# Altium schematic symbol library Schlib1.SchLib: 23 symbols
Pins are listed as number, name and electrical type; pins without a type are passive.

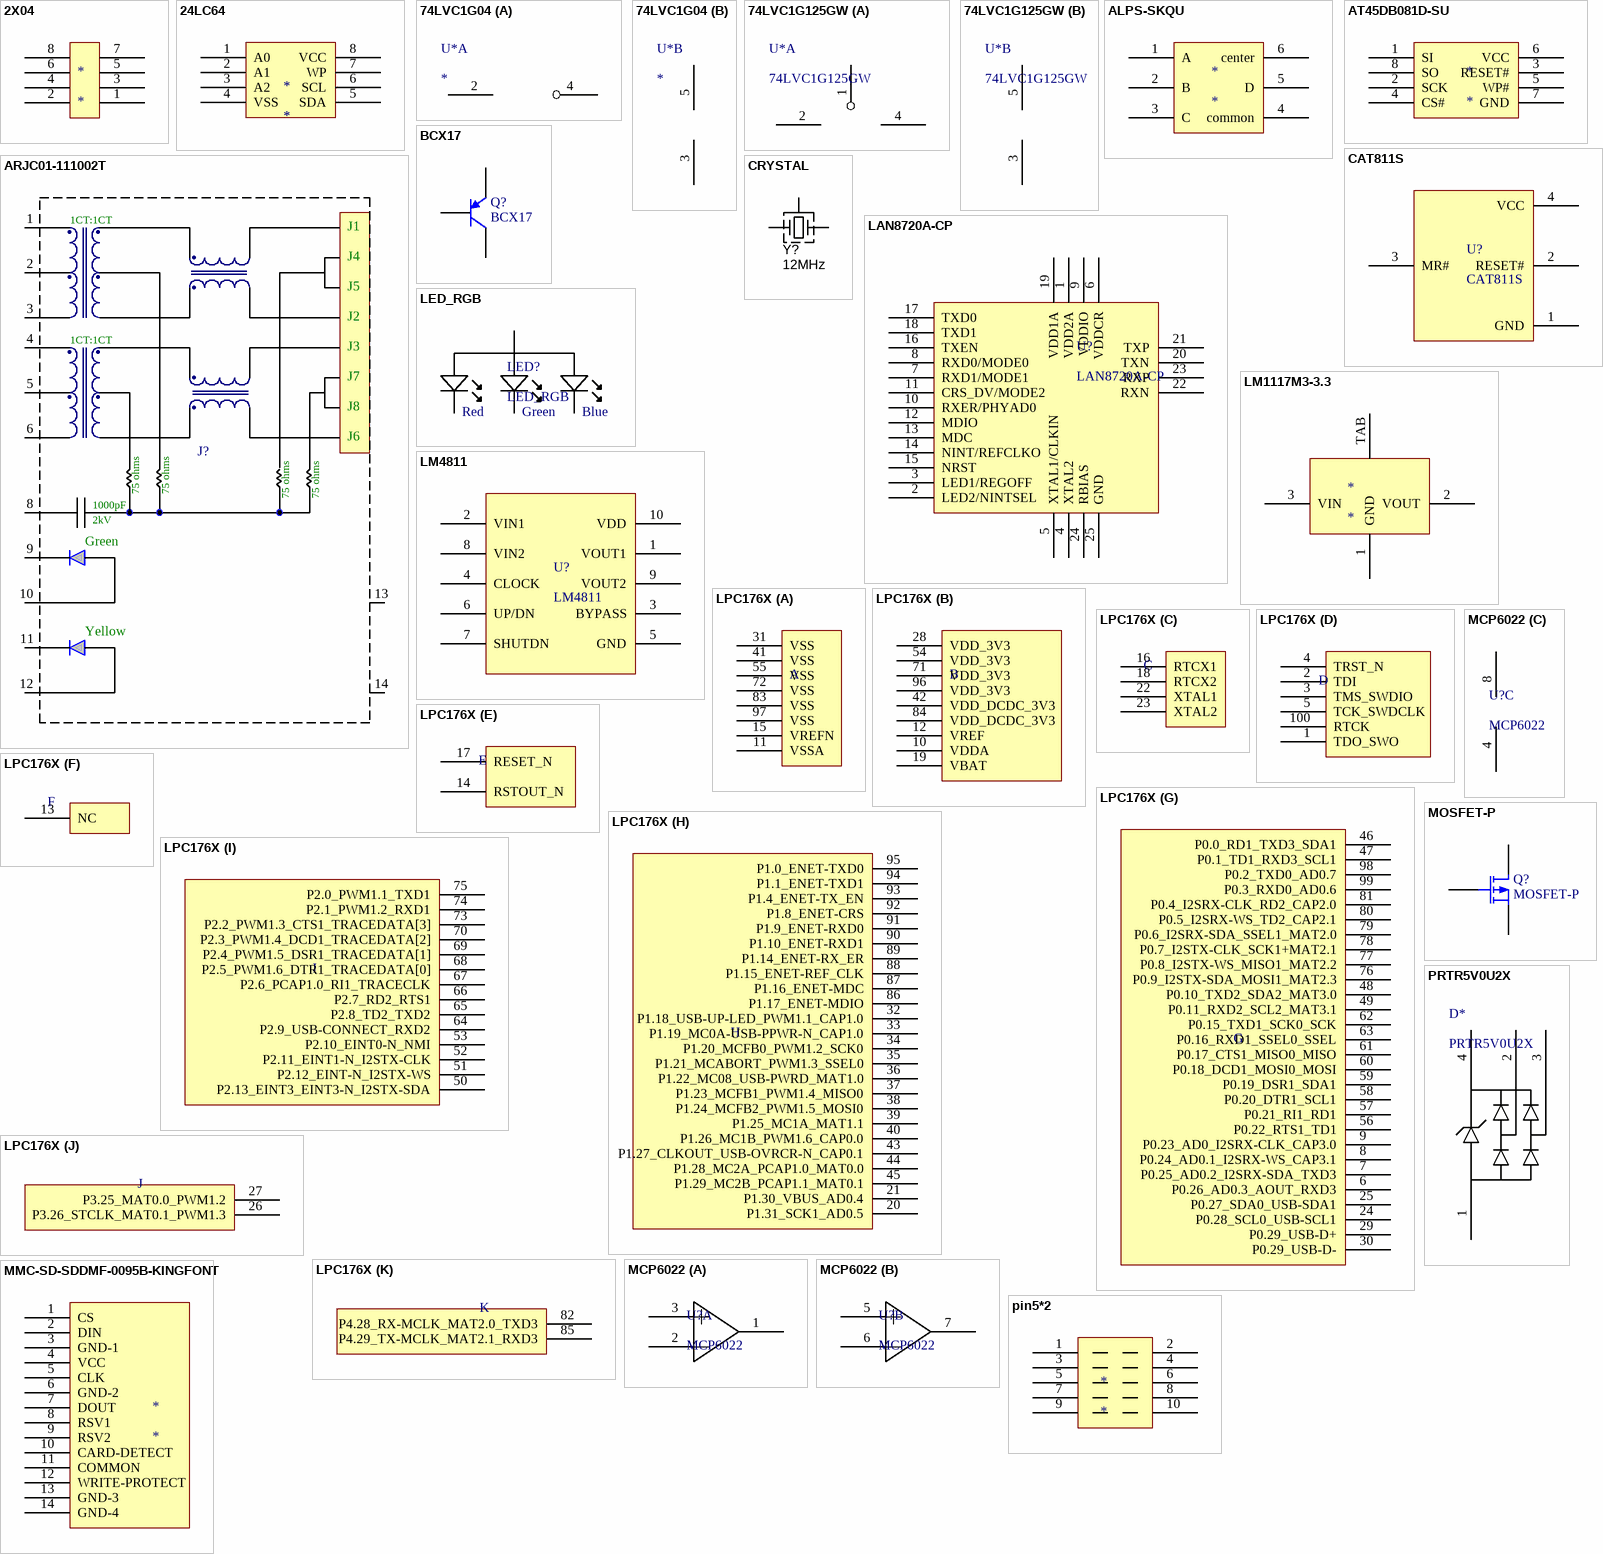
[diagram p0: symbols 2X04 to PRTR5V0U2X]

## 2X04
designator *
pins: 1, 2, 3, 4, 5, 6, 7, 8

## 24LC64
designator *
pins: 1 A0, 2 A1, 3 A2, 4 VSS, 5 SDA, 6 SCL, 7 WP, 8 VCC

## 74LVC1G04
designator U*
footprint SOT-23-CT5_N (Footprint not found)
part A pins: 2, 4
part B pins: 3 GND, 5 VCC

## 74LVC1G125GW
designator U*
footprint SOT-23-CT5_N (Footprint not found)
part A pins: 1 ~{OE}, 2 A, 4 Y
part B pins: 3 GND, 5 VCC

## ALPS-SKQU
designator *
pins: 1 A, 2 B, 3 C, 4 common, 5 D, 6 center

## ARJC01-111002T
designator J?
10/100 Base-Tx Tap Up RJ45 with LED
footprint ARJC01-111002T
pins: 1 TD+, 2 CTD, 3 TD-, 4 RD+, 5 CRD, 6 RD-, 8 Shield, 9, 10, 11, 12, 13 GND, 14 GND
text: 1CT:1CT; J1; J4; J5; J2; J3; J7; J8; J6; 75 ohms; 1000pF; 2kV; Green; Yellow

## AT45DB081D-SU
designator *
pins: 1 SI, 2 SCK, 3 RESET#, 4 CS#, 5 WP#, 6 VCC, 7 GND, 8 SO

## BCX17
designator Q?
PNP General Purpose Transistors; Published: 8-Jun-2000; LatestRevisionDate: 15-Jan-2003; LatestRevisionNote: PCB Footprint 'BCY-W3/D4.7' replaced; DatasheetVersion: 1997; PackageVersion: Sep-1998; PackageReference: TO-92A; Publisher: Altium Limited; PackageDescription: TO, Flat Index; 3 In-Line, Axial Leads; Body Dia. 4.5mm; Leads 0.51 x 0.48 mm (max); ComponentLink1Description: Manufacturer Link; ComponentLink1URL: http://www.fairchildsemi.com/; ComponentLink2Description: Datasheet; ComponentLink2URL: http://www.fairchildsemi.com/ds/2N%2F2N3906.pdf
footprint SOT23-3N (SOT23, 3-Leads, Body 2.9x1.3mm, Pitch 0.95mm, Lead Span 2.5mm, IPC Medium Density)
simulation model 2N3906 (PNP)
signal-integrity model 2N3906
pins: 1 B, 2 E, 3 C

## CAT811S
designator U?
footprint SOT-143-R (SOT-143; 4 Leads; Body 3 x 2.6 mm, inc. leads (LxW max))
pins: 1 GND, 2 RESET#, 3 MR#, 4 VCC

## CRYSTAL
designator Y?, comment 12MHz
Oscillator Crystal; Manufacturer 1: TXC CORPORATION; Manufacturer Part Number 1: 7M-27.120MEEQ-T; Ratings: 4.9152 MHz Crystal; Frequency Stability: ?0ppm; Load Capacitance: 10pF; Operating Mode: Fundamental; Package / Case: 2.5mm pitch; Material: Ceramic; Supplier 1: Digi-Key; Supplier Part Number 1: 887-1329-1-ND; Type: MHz Crystal; Frequency Tolerance: ?0ppm; Operating Temperature: -20蚓 ~ 70蚓; Mounting Type: Surface Mount; Size / Dimension: 0.126" L x 0.098" W (3.20mm x 2.50mm); ComponentLink1URL: http://www.txccrystal.com/images/pdf/7m-accuracy.pdf; ComponentLink1Description: http://www.txccrystal.com/images/pdf/7m-accuracy.pdf
footprint 9HT7-32.768KDZF-T
pins: 1 X, 2 GND, 3 GND, 4 X

## LAN8720A-CP
designator U?
footprint QFN-MJ24 (QFN, 24-Leads, Body 4x4mm, Pitch 0.5mm, Microchip Recommended)
pins: 1 VDD2A, 2 LED2/NINTSEL, 3 LED1/REGOFF, 4 XTAL2, 5 XTAL1/CLKIN, 6 VDDCR, 7 RXD1/MODE1, 8 RXD0/MODE0, 9 VDDIO, 10 RXER/PHYAD0, 11 CRS_DV/MODE2, 12 MDIO, 13 MDC, 14 NINT/REFCLKO, 15 NRST, 16 TXEN, 17 TXD0, 18 TXD1, 19 VDD1A, 20 TXN, 21 TXP, 22 RXN, 23 RXP, 24 RBIAS, 25 GND

## LED_RGB
designator LED?
footprint 4-PLCC (LED_RGB)
pins: B, G, R, VCC
text: Red; Green; Blue

## LM1117M3-3.3
designator *
pins: 1 GND, 2 VOUT, 3 VIN, TAB

## LM4811
designator U?
footprint MSOP-UN10_M (Footprint not found)
pins: 1 VOUT1, 2 VIN1, 3 BYPASS, 4 CLOCK, 5 GND, 6 UP/DN, 7 SHUTDN, 8 VIN2, 9 VOUT2, 10 VDD

## LPC176X
designator ?
footprint TQFP-PT100_N (Footprint not found)
part A pins: 11 VSSA, 15 VREFN, 31 VSS, 41 VSS, 55 VSS, 72 VSS, 83 VSS, 97 VSS
part B pins: 10 VDDA, 12 VREF, 19 VBAT, 28 VDD_3V3, 42 VDD_DCDC_3V3, 54 VDD_3V3, 71 VDD_3V3, 84 VDD_DCDC_3V3, 96 VDD_3V3
part C pins: 16 RTCX1, 18 RTCX2, 22 XTAL1, 23 XTAL2
part D pins: 1 TDO_SWO, 2 TDI, 3 TMS_SWDIO, 4 TRST_N, 5 TCK_SWDCLK, 100 RTCK
part E pins: 14 RSTOUT_N, 17 RESET_N
part F pins: 13 NC
part G pins: 6 P0.26_AD0.3_AOUT_RXD3, 7 P0.25_AD0.2_I2SRX-SDA_TXD3, 8 P0.24_AD0.1_I2SRX-WS_CAP3.1, 9 P0.23_AD0_I2SRX-CLK_CAP3.0, 24 P0.28_SCL0_USB-SCL1, 25 P0.27_SDA0_USB-SDA1, 29 P0.29_USB-D+, 30 P0.29_USB-D-, 46 P0.0_RD1_TXD3_SDA1, 47 P0.1_TD1_RXD3_SCL1, 48 P0.10_TXD2_SDA2_MAT3.0, 49 P0.11_RXD2_SCL2_MAT3.1, 56 P0.22_RTS1_TD1, 57 P0.21_RI1_RD1, 58 P0.20_DTR1_SCL1, 59 P0.19_DSR1_SDA1, 60 P0.18_DCD1_MOSI0_MOSI, 61 P0.17_CTS1_MISO0_MISO, 62 P0.15_TXD1_SCK0_SCK, 63 P0.16_RXD1_SSEL0_SSEL, 76 P0.9_I2STX-SDA_MOSI1_MAT2.3, 77 P0.8_I2STX-WS_MISO1_MAT2.2, 78 P0.7_I2STX-CLK_SCK1+MAT2.1, 79 P0.6_I2SRX-SDA_SSEL1_MAT2.0, 80 P0.5_I2SRX-WS_TD2_CAP2.1, 81 P0.4_I2SRX-CLK_RD2_CAP2.0, 98 P0.2_TXD0_AD0.7, 99 P0.3_RXD0_AD0.6
part H pins: 20 P1.31_SCK1_AD0.5, 21 P1.30_VBUS_AD0.4, 32 P1.18_USB-UP-LED_PWM1.1_CAP1.0, 33 P1.19_MC0A-USB-PPWR-N_CAP1.0, 34 P1.20_MCFB0_PWM1.2_SCK0, 35 P1.21_MCABORT_PWM1.3_SSEL0, 36 P1.22_MC08_USB-PWRD_MAT1.0, 37 P1.23_MCFB1_PWM1.4_MISO0, 38 P1.24_MCFB2_PWM1.5_MOSI0, 39 P1.25_MC1A_MAT1.1, 40 P1.26_MC1B_PWM1.6_CAP0.0, 43 P1.27_CLKOUT_USB-OVRCR-N_CAP0.1, 44 P1.28_MC2A_PCAP1.0_MAT0.0, 45 P1.29_MC2B_PCAP1.1_MAT0.1, 86 P1.17_ENET-MDIO, 87 P1.16_ENET-MDC, 88 P1.15_ENET-REF_CLK, 89 P1.14_ENET-RX_ER, 90 P1.10_ENET-RXD1, 91 P1.9_ENET-RXD0, 92 P1.8_ENET-CRS, 93 P1.4_ENET-TX_EN, 94 P1.1_ENET-TXD1, 95 P1.0_ENET-TXD0
part I pins: 50 P2.13_EINT3_EINT3-N_I2STX-SDA, 51 P2.12_EINT-N_I2STX-WS, 52 P2.11_EINT1-N_I2STX-CLK, 53 P2.10_EINT0-N_NMI, 64 P2.9_USB-CONNECT_RXD2, 65 P2.8_TD2_TXD2, 66 P2.7_RD2_RTS1, 67 P2.6_PCAP1.0_RI1_TRACECLK, 68 P2.5_PWM1.6_DTR1_TRACEDATA[0], 69 P2.4_PWM1.5_DSR1_TRACEDATA[1], 70 P2.3_PWM1.4_DCD1_TRACEDATA[2], 73 P2.2_PWM1.3_CTS1_TRACEDATA[3], 74 P2.1_PWM1.2_RXD1, 75 P2.0_PWM1.1_TXD1
part J pins: 26 P3.26_STCLK_MAT0.1_PWM1.3, 27 P3.25_MAT0.0_PWM1.2
part K pins: 82 P4.28_RX-MCLK_MAT2.0_TXD3, 85 P4.29_TX-MCLK_MAT2.1_RXD3

## MCP6022
designator U?
footprint TSSOP-ST8_N (Footprint not found)
part A pins: 1 VOUTA, 2 VINA-, 3 VINA+
part B pins: 5 VINB+, 6 VINB-, 7 VOUTB
part C pins: 4 GND, 8 VDD

## MMC-SD-SDDMF-0095B-KINGFONT
designator *
pins: 1 CS, 2 DIN, 3 GND-1, 4 VCC, 5 CLK, 6 GND-2, 7 DOUT, 8 RSV1, 9 RSV2, 10 CARD-DETECT, 11 COMMON, 12 WRITE-PROTECT, 13 GND-3, 14 GND-4

## MOSFET-P
designator Q?
P-Channel MOSFET; Published: 8-Jun-2000; LatestRevisionDate: 17-Jul-2002; LatestRevisionNote: Re-released for DXP Platform.; PackageVersion: 1995/1996; PackageReference: E3; Publisher: Altium Limited; PackageDescription: TO, Flat Index; 3 In-Line, Axial Leads; Body Dia. 4.6mm; Lead Dia. 0.5 mm (max)
footprint SOT23-3N (SOT23, 3-Leads, Body 2.9x1.3mm, Pitch 0.95mm, Lead Span 2.5mm, IPC Medium Density)
simulation model PMOS (MOSFET-P)
pins: 1 G, 2 S, 3 D

## pin5*2
designator *
pins: 1, 2, 3, 4, 5, 6, 7, 8, 9, 10

## PRTR5V0U2X
designator D*
footprint SOT190P230X120-4N (SOT143, 4-Leads, Body 2.9x1.3mm, Pitch 1.9mm, Lead Span 2.3mm, IPC Medium Density)
pins: 1 GND, 2 I/O 1, 3 I/O 2, 4 VCC

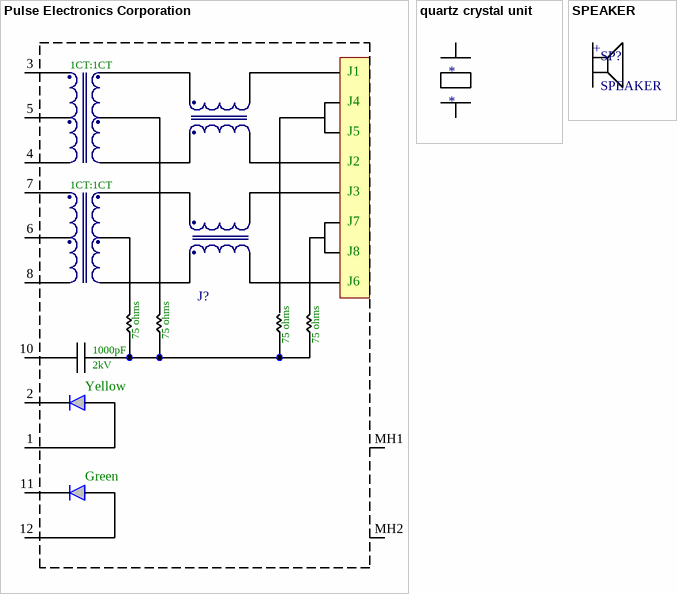
[diagram p1: symbols Pulse Electronics Corporation to SPEAKER]

## Pulse Electronics Corporation
designator J?, comment J3011G21DNL  (value not drawn)
10/100 Base-Tx Tap Up RJ45 with LED
footprint J3011G21DNL
pins: 1 10, 2 9, 3 TD+, 4 TD-, 5 CTD, 6 CRD, 7 RD+, 8 RD-, 10 Shield, 11, 12, MH1 GND, MH2 GND
text: 1CT:1CT; J1; J4; J5; J2; J3; J7; J8; J6; 75 ohms; 1000pF; 2kV; Yellow; Green

## quartz crystal unit
designator *

## SPEAKER
designator SP?
text: +